# EAGLE library part BQ24072 (library dawidkulpa_dev)
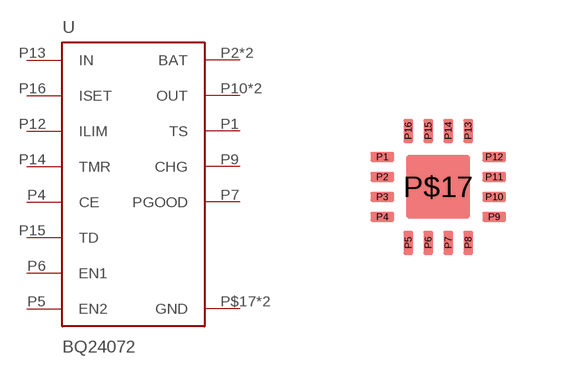
[diagram p25: symbol with the pads of VQFN16; footprint VQFN16]

Designator prefix -

## BQ24072  [VQFN16]
P1  TS
P2  BAT
P3  BAT
P4  CE
P5  EN2
P6  EN1
P7  PGOOD
P8  GND
P9  CHG
P10  OUT
P11  OUT
P12  ILIM
P13  IN
P14  TMR
P15  TD
P16  ISET
P$17  GND

## Footprint VQFN16 (pad centres in mm)
smd 0.6 x 0.25: P1 -1.4,0.75; P2 -1.4,0.25; P3 -1.4,-0.25; P4 -1.4,-0.75; P9 1.4,-0.75; P10 1.4,-0.25; P11 1.4,0.25; P12 1.4,0.75
smd 0.25 x 0.6: P5 -0.75,-1.4; P6 -0.25,-1.4; P7 0.25,-1.4; P8 0.75,-1.4; P13 0.75,1.4; P14 0.25,1.4; P15 -0.25,1.4; P16 -0.75,1.4
smd 1.6 x 1.6: P$17 0,0